# EAGLE library part SLG46140V (library GREENPAK)
GreenPAK4 SLG46140V Silego Technology www.silego.com
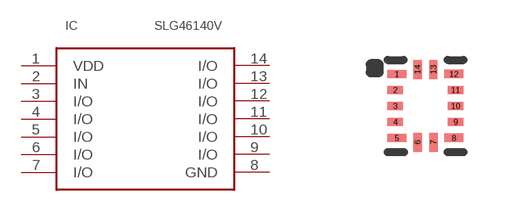
[diagram p7: symbol with the pads of STQFN-14-2.0X1.6_N; footprint STQFN-14-2.0X1.6_N]

Designator prefix IC

## SLG46140V  [STQFN-14-2.0X1.6_N]
1  VDD
2  IN
3  I/O
4  I/O
5  I/O
6  I/O
7  I/O
8  GND
9  I/O
10  I/O
11  I/O
12  I/O
13  I/O
14  I/O

## Footprint STQFN-14-2.0X1.6_N (pad centres in mm)
smd 0.475 x 0.21: 1 -0.713,0.8; 5 -0.712,-0.8; 8 0.713,-0.799; 12 0.713,0.8
smd 0.39 x 0.21: 2 -0.755,0.4; 3 -0.755,0; 4 -0.755,-0.4; 9 0.755,-0.4; 10 0.755,0; 11 0.755,0.4
smd 0.21 x 0.475: 6 -0.199,-0.912; 7 0.2,-0.912; 13 0.2,0.912; 14 -0.2,0.913